# Altium footprint library sigma-delta-adc-uart.PcbLib: 15 footprints
Each footprint in its own frame and in the unit in brackets; x right, y up, seen from the top. Pads: shape width x height; smd on the part's side, far side on the other; paste and mask are expansions set on the pad; w line width, h text height; cw(c..) or ccw(c..) is an arc to the next point about the centre after c.
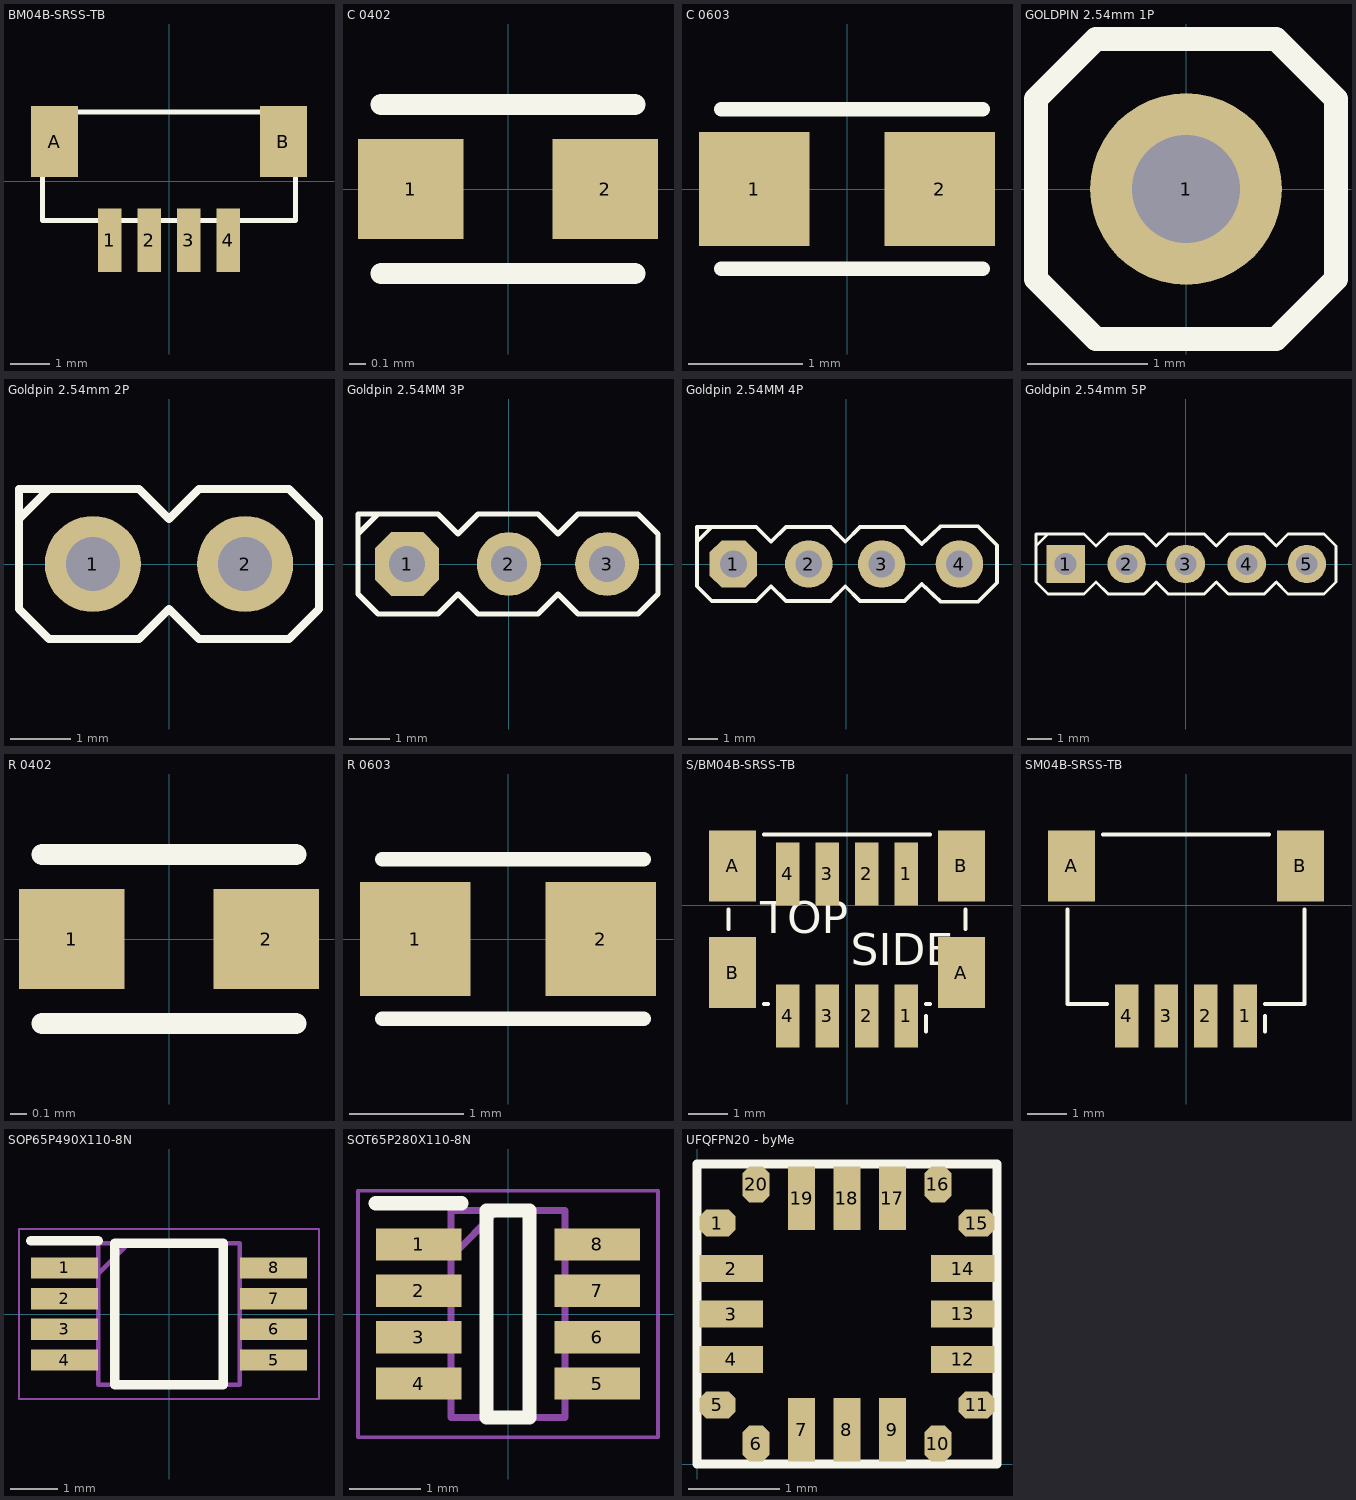
[diagram p0: the footprints below, top view; thin cyan lines are the x and y axes]

## BM04B-SRSS-TB [mm]
pads (6):
  rect 0.6x1.6 smd: 1(-1.5,-1.5) 2(-0.5,-1.5) 3(0.5,-1.5) 4(1.5,-1.5)
  rect 1.2x1.8 smd: A(-2.9,1) B(2.9,1)
Top Overlay:
  lines w0.127: -3.2,-1 -3.2,1.75 3.2,1.75 3.2,-1 -3.2,-1
3D body "BM4B-SRSS-TB.step": height 4.25, standoff -0.05, extent -3,-1.9 3,1.7

## C 0402 [mm] "MLCC Capacitor 0402"
pads (2):
  rect 0.635x0.6 smd: 1(-0.584,0) 2(0.584,0)
Top Overlay:
  lines w0.127: -0.762,-0.508 0.762,-0.508 ; -0.762,0.508 0.762,0.508
3D body "Resistor 0402.step": height 0.35, standoff 0, extent -0.76,-0.251 0.74,0.249

## C 0603 [mil]
pads (2):
  rect 38x39.37 smd: 1(-32,0) 2(32,0)
Top Overlay:
  lines w5: -43.31,-27.56 46.69,-27.56 ; -43.31,27.56 46.69,27.56
3D body "C0603_060.step": height 23.62, standoff 0, extent -31.5,-15.75 31.5,15.75

## GOLDPIN 2.54mm 1P [mm]
pads (1):
  round 1.6 hole 0.9: 1(0,0)
Top Overlay:
  lines w0.2: -1.25,-0.75 -0.75,-1.25 0.75,-1.25 1.25,-0.75 1.25,0.75 0.75,1.25 0.25,1.25 -0.75,1.25 -1.25,0.75 -1.25,-0.75

## Goldpin 2.54mm 2P [mm]
pads (2):
  round 1.6 hole 0.9: 1(-1.27,0) 2(1.27,0)
Top Overlay:
  lines w0.127: -2.5,0.75 -2.5,1.25 -2,1.25 ; -2.5,0.75 -2.5,-0.75 -2,-1.25 -0.5,-1.25 0,-0.75 0.5,-1.25 2,-1.25 2.5,-0.75 2.5,0.75 2,1.25 0.5,1.25 0,0.75 -0.5,1.25 -1.5,1.25 -2,1.25 ; -2.5,0.75 -2,1.25

## Goldpin 2.54MM 3P [mm]
pads (3):
  oct 1.6x1.6 hole 0.9: 1(-2.54,0)
  round 1.6 hole 0.9: 2(0,0) 3(2.46,0)
Top Overlay:
  lines w0.127: -3.77,0.75 -3.77,-0.75 -3.27,-1.25 -1.77,-1.25 -1.27,-0.75 -0.77,-1.25 0.73,-1.25 1.23,-0.75 1.73,-1.25 3.23,-1.25 3.73,-0.75 3.73,0.75 3.23,1.25 2.23,1.25 1.73,1.25 1.23,0.75 0.73,1.25 -0.77,1.25 -1.27,0.75 -1.77,1.25 -2.77,1.25 -3.27,1.25 ; -3.77,0.75 -3.27,1.25 ; -3.77,0.75 -3.77,1.25 -3.27,1.25

## Goldpin 2.54MM 4P [mm]
pads (4):
  oct 1.6x1.6 hole 0.9: 1(-3.81,0)
  round 1.6 hole 0.9: 2(-1.27,0) 3(1.19,0) 4(3.81,0)
Top Overlay:
  lines w0.127: -5.04,0.75 -5.04,-0.75 -4.54,-1.25 -3.04,-1.25 -2.54,-0.75 -2.04,-1.25 -0.54,-1.25 -0.04,-0.75 0.46,-1.25 1.96,-1.25 2.54,-0.67 3.175,-1.27 4.445,-1.27 5.08,-0.635 5.08,0.635 4.445,1.27 3.175,1.27 2.54,0.67 1.96,1.25 0.96,1.25 0.46,1.25 -0.04,0.75 -0.54,1.25 -2.04,1.25 -2.54,0.75 -3.04,1.25 -4.04,1.25 -4.54,1.25 ; -5.04,0.75 -4.54,1.25 ; -5.04,0.75 -5.04,1.25 -4.54,1.25

## Goldpin 2.54mm 5P [mm]
pads (5):
  rect 1.6x1.6 hole 0.9: 1(-5,0)
  round 1.6 hole 0.9: 2(-2.46,0) 3(0,0) 4(2.54,0) 5(5.04,0)
Top Overlay:
  lines w0.127: -6.23,0.75 -6.23,1.25 -5.73,1.25 ; -6.23,0.75 -6.23,-0.75 -5.73,-1.25 -4.23,-1.25 -3.73,-0.75 -3.23,-1.25 -1.73,-1.25 -1.23,-0.75 -0.73,-1.25 0.77,-1.25 1.27,-0.75 1.77,-1.25 3.27,-1.25 3.77,-0.75 4.25,-1.25 5.75,-1.25 6.25,-0.75 6.25,0.75 5.75,1.25 4.25,1.25 3.77,0.75 3.27,1.25 1.77,1.25 1.27,0.75 0.77,1.25 -0.23,1.25 -0.73,1.25 -1.23,0.75 -1.73,1.25 -3.23,1.25 -3.73,0.75 -4.23,1.25 -5.23,1.25 -5.73,1.25 ; -6.23,0.75 -5.73,1.25

## R 0402 [mm] "0402 resistor Chip"
pads (2):
  rect 0.635x0.6 smd: 1(-0.584,0) 2(0.584,0)
Top Overlay:
  lines w0.127: -0.762,-0.508 0.762,-0.508 ; -0.762,0.508 0.762,0.508
3D body "Rezystor 0402.stp": height 0.31, standoff -0.01, extent -0.5,-0.25 0.5,0.25

## R 0603 [mil]
pads (2):
  rect 38x39.37 smd: 1(-32,0) 2(32,0)
Top Overlay:
  lines w5: -43.31,-27.56 46.69,-27.56 ; -43.31,27.56 46.69,27.56
3D body "Resistor 0603.step": height 19.72, standoff 0, extent -41.34,-16 41.34,15.5

## S/BM04B-SRSS-TB [mm] "JST SH 1.00mm 4Pin Side/Top"
pads (12):
  rect 0.6x1.6 smd: 1(1.5,-2.8) 1(1.5,0.8) 2(0.5,-2.8) 2(0.5,0.8) 3(-0.5,0.8) 3(-0.5,-2.8) 4(-1.5,0.8) 4(-1.5,-2.8)
  rect 1.2x1.8 smd: A(-2.9,1) A(2.9,-1.7) B(-2.9,-1.7) B(2.9,1)
Top Overlay:
  lines w0.1: -3,-0.6 -3,-0.1 ; -2.1,-2.5 -2,-2.5 ; -2.1,1.8 2.1,1.8 ; 2,-3.2 2,-2.8 ; 2,-2.5 2.1,-2.5 ; 3,-0.6 3,-0.1
  text "TOP" at -2.199,-0.988 h1.4
  text "SIDE" at 0.101,-1.788 h1.4
3D body "SM4B-SRSS-TB.step": height 2.9, standoff -0.05, extent -3,-3.2 3,1.75
3D body "BM4B-SRSS-TB.step": height 4.25, standoff -0.05, extent -3,-2.4 3,1.2

## SM04B-SRSS-TB [mm]
pads (6):
  rect 0.6x1.6 smd: 1(1.5,-2.8) 2(0.5,-2.8) 3(-0.5,-2.8) 4(-1.5,-2.8)
  rect 1.2x1.8 smd: A(-2.9,1) B(2.9,1)
Top Overlay:
  lines w0.1: -3,-0.1 -3,-2.5 -2,-2.5 ; -2.1,1.8 2.1,1.8 ; 2,-3.2 2,-2.8 ; 2,-2.5 3,-2.5 3,-0.1
3D body "SM4B-SRSS-TB.step": height 2.9, standoff -0.05, extent -3,-3.2 3,1.75

## SOP65P490X110-8N [mm]
pads (8):
  rect 1.425x0.45 smd: 1(-2.212,0.975) 2(-2.212,0.325) 3(-2.212,-0.325) 4(-2.212,-0.975) 5(2.212,-0.975) 6(2.212,-0.325) 7(2.212,0.325) 8(2.212,0.975)
Top Overlay:
  lines w0.2: -2.925,1.55 -1.5,1.55 ; -1.15,-1.5 1.15,-1.5 1.15,1.5 -1.15,1.5 -1.15,-1.5
Mechanical 13:
  lines w0.1: -1.5,0.85 -0.85,1.5 ; -1.5,-1.5 1.5,-1.5 1.5,1.5 -1.5,1.5 -1.5,-1.5
Mechanical 15:
  lines w0.05: -3.175,-1.8 3.175,-1.8 3.175,1.8 -3.175,1.8 -3.175,-1.8
3D body "MAX1614EUA+.stp": height 1.1, standoff 0, extent -2.452,-1.5 2.452,1.5

## SOT65P280X110-8N [mm]
pads (8):
  rect 1.2x0.45 smd: 1(-1.25,0.975) 2(-1.25,0.325) 3(-1.25,-0.325) 4(-1.25,-0.975) 5(1.25,-0.975) 6(1.25,-0.325) 7(1.25,0.325) 8(1.25,0.975)
Top Overlay:
  lines w0.2: -1.85,1.55 -0.65,1.55 ; -0.3,-1.45 0.3,-1.45 0.3,1.45 -0.3,1.45 -0.3,-1.45
Mechanical 13:
  lines w0.1: -0.8,0.8 -0.15,1.45 ; -0.8,-1.45 0.8,-1.45 0.8,1.45 -0.8,1.45 -0.8,-1.45
Mechanical 15:
  lines w0.05: -2.1,-1.725 2.1,-1.725 2.1,1.725 -2.1,1.725 -2.1,-1.725
3D body "LM2903BIDDFR.stp": height 0.9, standoff 0, extent -1.41,-1.45 1.41,1.45

## UFQFPN20 - byMe [mm]
pads (20):
  oct 0.4x0.3 smd: 1(0.225,2.65) 5(0.225,0.65) 11(3.075,0.65) 15(3.075,2.65)
  rect 0.7x0.3 smd: 2(0.375,2.15) 3(0.375,1.65) 4(0.375,1.15) 12(2.925,1.15) 13(2.925,1.65) 14(2.925,2.15)
  oct 0.3x0.4 smd: 6(0.65,0.225) 10(2.65,0.225) 16(2.65,3.075) 20(0.65,3.075)
  rect 0.3x0.7 smd: 7(1.15,0.375) 8(1.65,0.375) 9(2.15,0.375) 17(2.15,2.925) 18(1.65,2.925) 19(1.15,2.925)
Top Overlay:
  lines w0.1: 0,0 0,3.3 3.3,3.3 3.3,0 0,0
  text "." at 0.1,2.973 h3
3D body "STM32C011F4U6TR.stp": height 0.55, standoff -0.01, extent 0.138,0.138 3.162,3.162